# Altium schematic symbol library IoWLabsModules.SchLib: 19 symbols
Pins are listed as number, name and electrical type; pins without a type are passive.

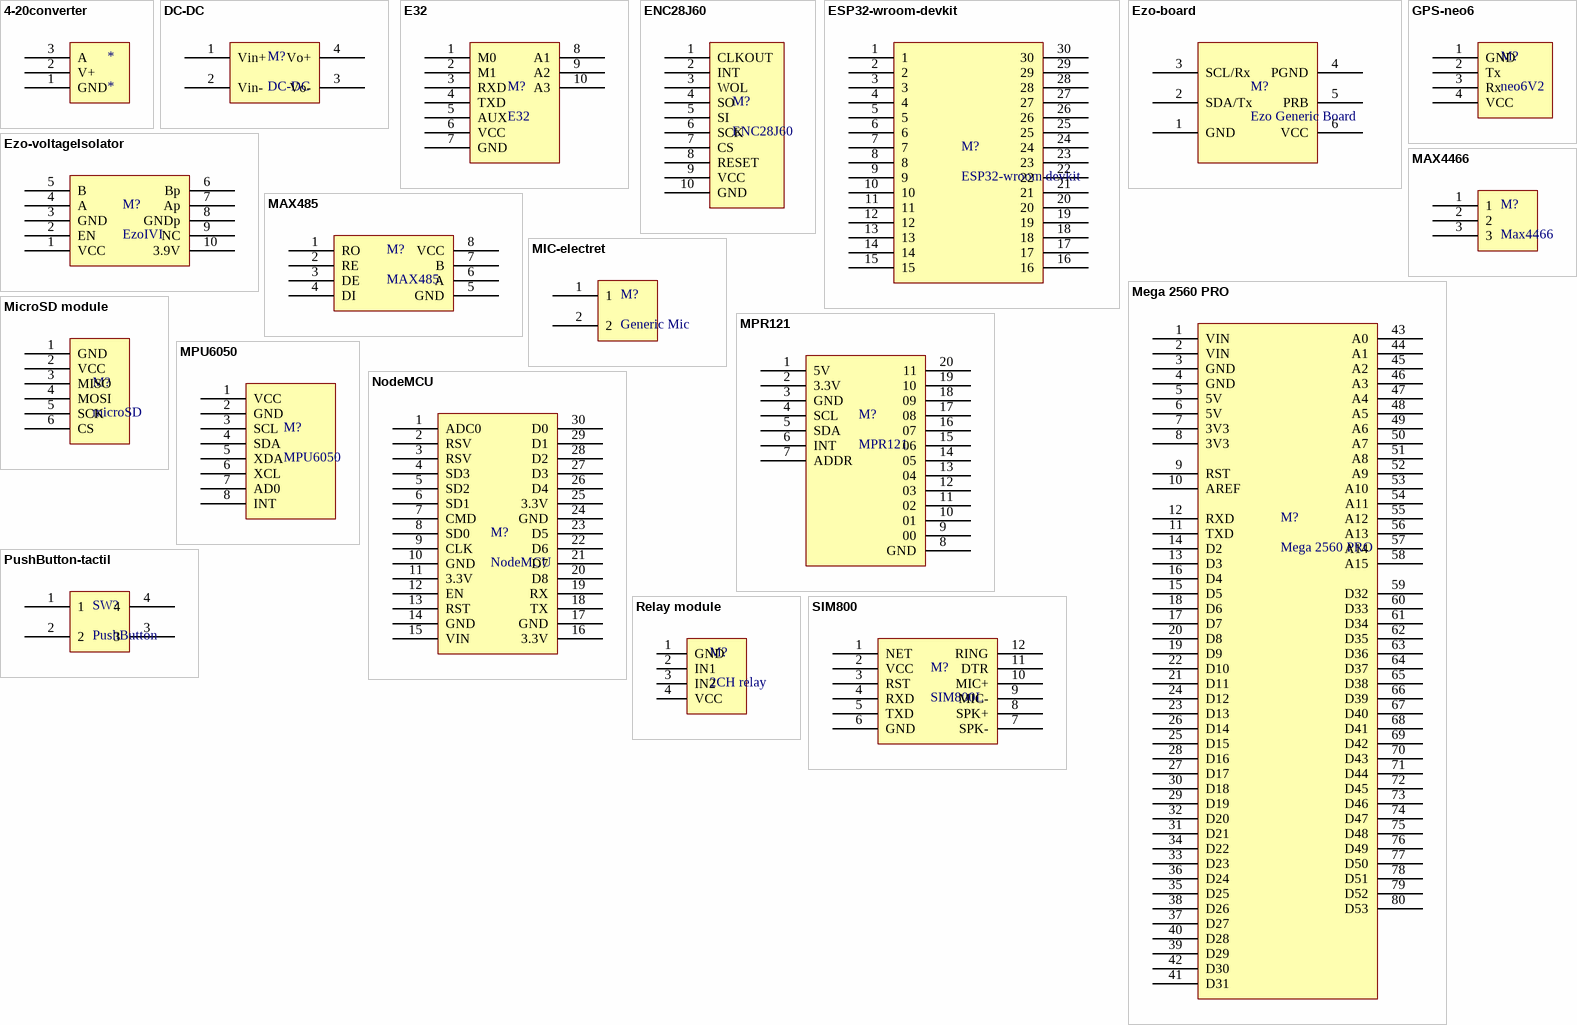
[diagram p0: symbols 4-20converter to SIM800]

## 4-20converter
designator *
pins: 1 GND, 2 V+, 3 A

## DC-DC
designator M?
DC-DC converter
footprint DC-DC MT3608 (MT3608 DC-DC StepUp module)
footprint DC-DC LM2569
pins: 1 Vin+, 2 Vin-, 3 Vo-, 4 Vo+

## E32
designator M?
Lora Module 915Mhz
footprint E32 (E32 LORA MODULE)
pins: 1 M0, 2 M1, 3 RXD, 4 TXD, 5 AUX, 6 VCC, 7 GND, 8 A1, 9 A2, 10 A3

## ENC28J60
designator M?
ETHERNET MODULE BASED ON ENC28J60
footprint ENC28j60 (ENC28j60 mini module)
pins: 1 CLKOUT, 2 INT, 3 WOL, 4 SO, 5 SI, 6 SCK, 7 CS, 8 RESET, 9 VCC, 10 GND

## ESP32-wroom-devkit
designator M?, comment ESP32-wroom devkit
ESP32 module based on esp32-wroom dev kit
footprint ESP32-devkit
pins: 1, 2, 3, 4, 5, 6, 7, 8, 9, 10, 11, 12, 13, 14, 15, 16, 17, 18, 19, 20, 21, 22, 23, 24, 25, 26, 27, 28, 29, 30

## Ezo-board
designator M?, comment Ezo Generic Board
Type: *; Supplier 1: Atlas-Scientific
footprint EZO-pH (Ezo Altas scientific generic board)
footprint EZO-OPR (Ezo Altas scientific generic board)
footprint EZO-RTD (Ezo-RTD Altas scientific)
footprint EZO-EC (Ezo Altas scientific generic board)
pins: 1 GND, 2 SDA/Tx, 3 SCL/Rx, 4 PGND, 5 PRB, 6 VCC

## Ezo-voltageIsolator
designator M?, comment EzoIVI
Ezo inline Voltage isolator
footprint EZO-isolator (Ezo Altas scientific generic board)
pins: 1 VCC, 2 EN, 3 GND, 4 A, 5 B, 6 Bp, 7 Ap, 8 GNDp, 9 NC, 10 3.9V

## GPS-neo6
designator M?, comment neo6V2
GPS module
footprint GPS-NEO6 (GPS MODULE)
pins: 1 GND, 2 Tx, 3 Rx, 4 VCC

## MAX485
designator M?
Conversor uart to rs485
footprint MAX485 (Module max485 to serial converter)
pins: 1 RO, 2 RE, 3 DE, 4 DI, 5 GND, 6 A, 7 B, 8 VCC

## MAX4466
designator M?, comment Max4466
Max4466 module mic and aplifier
footprint MAX4466 (max4466 module)
pins: 1, 2, 3

## Mega 2560 PRO
designator M?
Arduino mega 2560 pro
footprint ArduinoMega mini pro
pins: 1 VIN, 2 VIN, 3 GND, 4 GND, 5 5V, 6 5V, 7 3V3, 8 3V3, 9 RST, 10 AREF, 11 TXD, 12 RXD, 13 D3, 14 D2, 15 D5, 16 D4, 17 D7, 18 D6, 19 D9, 20 D8, 21 D11, 22 D10, 23 D13, 24 D12, 25 D15, 26 D14, 27 D17, 28 D16, 29 D19, 30 D18, 31 D21, 32 D20, 33 D23, 34 D22, 35 D25, 36 D24, 37 D27, 38 D26, 39 D29, 40 D28, 41 D31, 42 D30, 43 A0, 44 A1, 45 A2, 46 A3, 47 A4, 48 A5, 49 A6, 50 A7, 51 A8, 52 A9, 53 A10, 54 A11, 55 A12, 56 A13, 57 A14, 58 A15, 59 D32, 60 D33, 61 D34, 62 D35, 63 D36, 64 D37, 65 D38, 66 D39, 67 D40, 68 D41, 69 D42, 70 D43, 71 D44, 72 D45, 73 D46, 74 D47, 75 D48, 76 D49, 77 D50, 78 D51, 79 D52, 80 D53

## MIC-electret
designator M?, comment Generic Mic
footprint MIC (generic mic)
pins: 1, 2

## MicroSD module
designator M?, comment microSD
Micro SD module
footprint MicroSD module
pins: 1 GND, 2 VCC, 3 MISO, 4 MOSI, 5 SCK, 6 CS

## MPR121
designator M?
Adafruit MPR121 capacitive touch breakout PCB module
footprint MPR121 (Adafruit MPR121 capacitive touch breakout PCB v1)
pins: 1 5V, 2 3.3V, 3 GND, 4 SCL, 5 SDA, 6 INT, 7 ADDR, 8 GND, 9 00, 10 01, 11 02, 12 03, 13 04, 14 05, 15 06, 16 07, 17 08, 18 09, 19 10, 20 11

## MPU6050
designator M?
Accelerometer module
footprint MPU6050 (accelerometer module)
pins: 1 VCC, 2 GND, 3 SCL, 4 SDA, 5 XDA, 6 XCL, 7 AD0, 8 INT

## NodeMCU
designator M?
NodeMCU ESP8266
footprint NODEMCU (NodeMCU ESP8266)
footprint NODEMCU-lolin (NODEMCU-lolin. ESP8266)
pins: 1 ADC0, 2 RSV, 3 RSV, 4 SD3, 5 SD2, 6 SD1, 7 CMD, 8 SD0, 9 CLK, 10 GND, 11 3.3V, 12 EN, 13 RST, 14 GND, 15 VIN, 16 3.3V, 17 GND, 18 TX, 19 RX, 20 D8, 21 D7, 22 D6, 23 D5, 24 GND, 25 3.3V, 26 D4, 27 D3, 28 D2, 29 D1, 30 D0

## PushButton-tactil
designator SW?, comment PushButton
push button tactil 2mm
footprint PUSHBUTTON (PushButton tactil)
pins: 1, 2, 3, 4

## Relay module
designator M?, comment 2CH relay
2ch relay module
footprint JST-4x1 (JST- TH-4x1-P2.5-XH)
pins: 1 GND, 2 IN1, 3 IN2, 4 VCC

## SIM800
designator M?, comment SIM800L
SIM800L Module breakdown
footprint SIM800L (SIM800L MODULE VERSION)
pins: 1 NET, 2 VCC, 3 RST, 4 RXD, 5 TXD, 6 GND, 7 SPK-, 8 SPK+, 9 MIC-, 10 MIC+, 11 DTR, 12 RING